# EAGLE library part HK19F-12VDC (library Ham Radio)
RELAY horizontal, 1 x switch, 5 A/300 V DC, 250 V AC, Siemens
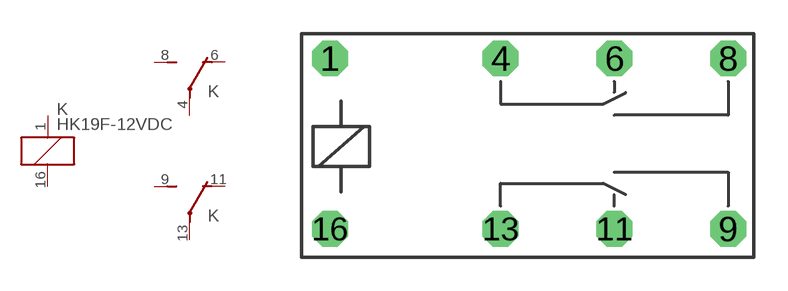
[diagram p6: symbol with the pads of HK19F-12VDC; footprint HK19F-12VDC]

Designator prefix K; gates 1=RELAY 2=S_RELAY G$1=S_RELAY

## HK19F-12VDC  [HK19F-12VDC]
1  1:A  pas
4  2:P  pas
6  2:O  pas
8  2:S  pas
9  G$1:S  pas
11  G$1:O  pas
13  G$1:P  pas
16  1:B  pas

## Footprint HK19F-12VDC (pad centres in mm)
RELAY horizontal, 1 x switch, 5 A/300 V DC, 250 V AC, Siemens
drill 0.8 pad 1.6 octagon: 1 -8.382,3.556; 4 -0.762,3.556; 6 4.318,3.556; 8 9.398,3.556; 9 9.398,-4.064; 11 4.318,-4.064; 13 -0.762,-4.064; 16 -8.382,-4.064